# Altium schematic symbol library OPA2188AID.SchLib: 1 symbol
Pins are listed as number, name and electrical type; pins without a type are passive.

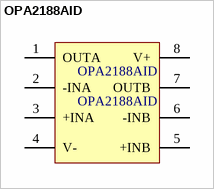
[diagram p0: symbol OPA2188AID]

## OPA2188AID
designator OPA2188AID
footprint OPA2188 (TSOP, 8-Leads, Body 3.1x3.1mm (max), Pitch 0.65mm, IPC Medium Density)
pins: 1 OUTA, 2 -INA, 3 +INA, 4 V-, 5 +INB, 6 -INB, 7 OUTB, 8 V+